# Altium integrated library WE-MCA (rev20c).IntLib: 12 symbols
Pins are listed as number, name and electrical type; pins without a type are passive.

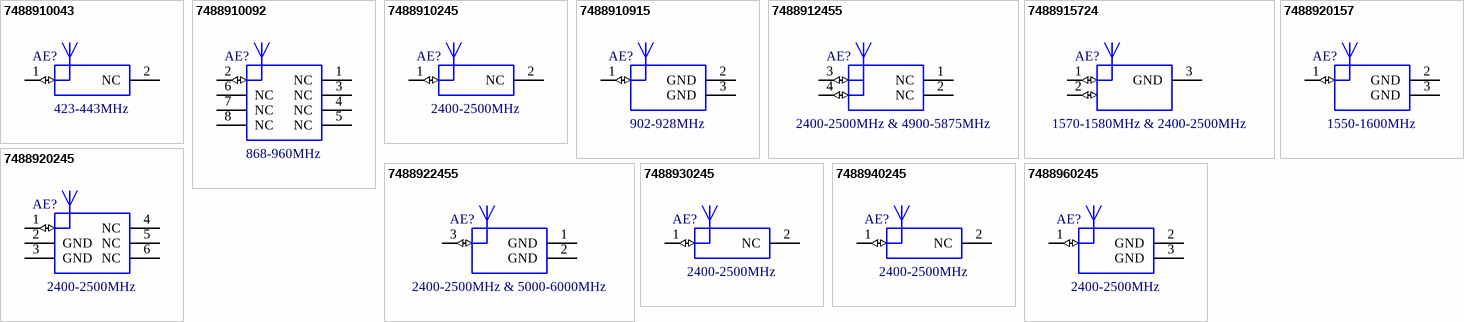
[diagram p0: symbols 7488910043 to 7488960245]

## 7488910043
designator AE?, comment 423-443MHz
WE-MCA SMT Multilayer Chip Antenna, 423-443MHz; Manufacturer: Wurth Elektronik; Manufacturer Part Number: 7488910043; Peak Gain 1: -4dBi; VSWR 1: 2; Impedance: 50Ohm; ComponentLink1Description: Manufacturer; ComponentLink1URL: http://www.we-online.de; ComponentLink2Description: Datasheet; ComponentLink2URL: https://www.we-online.com/catalog/datasheet/7488910043.pdf; Published Date: May 2020; Mounting Technology: SMT; Frequency Range 1: 423-443MHz; Packaging: Tape and Reel; Operating Temperature: -40 to +85degC; Frequency Range 2: -; Peak Gain 2: -; VSWR 2: -
footprint 7488910043
pins: 1 Feed (io), 2 NC

## 7488910092
designator AE?, comment 868-960MHz
WE-MCA SMT Multilayer Chip Antenna, 868-960MHz; Manufacturer: Wurth Elektronik; Manufacturer Part Number: 7488910092; Peak Gain 1: -0.7dBi; VSWR 1: 2.5; Impedance: 50Ohm; ComponentLink1Description: Manufacturer; ComponentLink1URL: http://www.we-online.de; ComponentLink2Description: Datasheet; ComponentLink2URL: https://www.we-online.com/catalog/datasheet/7488910092.pdf; Published Date: May 2020; Mounting Technology: SMT; Frequency Range 1: 868-960MHz; Packaging: Tape and Reel; Operating Temperature: -40 to +85degC; Frequency Range 2: -; Peak Gain 2: -; VSWR 2: -
footprint 7488910092
pins: 1 NC, 2 Feed (io), 3 NC, 4 NC, 5 NC, 6 NC, 7 NC, 8 NC

## 7488910245
designator AE?, comment 2400-2500MHz
WE-MCA SMT Multilayer Chip Antenna, 2400-2500MHz; Manufacturer: Wurth Elektronik; Manufacturer Part Number: 7488910245; Peak Gain 1: 3dBi; VSWR 1: 2; Impedance: 50Ohm; ComponentLink1Description: Manufacturer; ComponentLink1URL: http://www.we-online.de; ComponentLink2Description: Datasheet; ComponentLink2URL: https://www.we-online.com/catalog/datasheet/7488910245.pdf; Published Date: May 2020; Mounting Technology: SMT; Frequency Range 1: 2400-2500MHz; Packaging: Tape and Reel; Operating Temperature: -40 to +85degC; Frequency Range 2: -; Peak Gain 2: -; VSWR 2: -
footprint 7488910245
pins: 1 Feed (io), 2 NC

## 7488910915
designator AE?, comment 902-928MHz
WE-MCA SMT Multilayer Chip Antenna, 902-928MHz; Manufacturer: Wurth Elektronik; Manufacturer Part Number: 7488910915; Peak Gain 1: 0.5dBi; VSWR 1: 3; Impedance: 50Ohm; ComponentLink1Description: Manufacturer; ComponentLink1URL: http://www.we-online.de; ComponentLink2Description: Datasheet; ComponentLink2URL: https://www.we-online.com/catalog/datasheet/7488910915.pdf; Published Date: May 2020; Mounting Technology: SMT; Frequency Range 1: 902-928MHz; Packaging: Tape and Reel; Operating Temperature: -40 to +85degC; Frequency Range 2: -; Peak Gain 2: -; VSWR 2: -
footprint 7488910915 (SMT-Multilayer Chip Antenne, body size 5.2x3.7mm)
pins: 1 Feed (io), 2 GND, 3 GND

## 7488912455
designator AE?, comment 2400-2500MHz & 4900-5875MHz
WE-MCA SMT Multilayer Chip Antenna, 2400-2500MHz & 4900-5875MHz; Manufacturer: Wurth Elektronik; Manufacturer Part Number: 7488912455; Peak Gain 1: 1dBi; VSWR 1: 2.2; Impedance: 50Ohm; Peak Gain 2: -1.5dBi; ComponentLink1Description: Manufacturer; ComponentLink1URL: http://www.we-online.de; ComponentLink2Description: Datasheet; ComponentLink2URL: https://www.we-online.com/catalog/datasheet/7488912455.pdf; Published Date: May 2020; Mounting Technology: SMT; Frequency Range 1: 2400-2500MHz; Packaging: Tape and Reel; Operating Temperature: -40 to +85degC; Frequency Range 2: 4900-5875MHz; VSWR 2: 2.2
footprint 7488912455
pins: 1 NC, 2 NC, 3 Feed_Low Band (io), 4 Feed_High Band (io)

## 7488915724
designator AE?, comment 1570-1580MHz & 2400-2500MHz
WE-MCA SMT Multilayer Chip Antenna, 1570-1580MHz & 2400-2500MHz; Manufacturer: Wurth Elektronik; Manufacturer Part Number: 7488915724; Peak Gain 1: 0.69dBi; VSWR 1: 2.5; Impedance: 50Ohm; Peak Gain 2: 0.97dBi; ComponentLink1Description: Manufacturer; ComponentLink1URL: http://www.we-online.de; ComponentLink2Description: Datasheet; ComponentLink2URL: https://www.we-online.com/catalog/datasheet/7488915724.pdf; Published Date: May 2020; Mounting Technology: SMT; Frequency Range 1: 1570-1580MHz; Packaging: Tape and Reel; Operating Temperature: -40 to +85degC; Frequency Range 2: 2400-2500MHz; VSWR 2: 2.5
footprint 7488915724 (SMT-Multilayer Chip Antenne, body size 3.2x1.7mm)
pins: 1 Feed1 (io), 2 Feed2 (io), 3 GND

## 7488920157
designator AE?, comment 1550-1600MHz
WE-MCA SMT Multilayer Chip Antenna, 1550-1600MHz; Manufacturer: Wurth Elektronik; Manufacturer Part Number: 7488920157; Peak Gain 1: 3.4dBi; VSWR 1: 2; Impedance: 50Ohm; ComponentLink1Description: Manufacturer; ComponentLink1URL: http://www.we-online.de; ComponentLink2Description: Datasheet; ComponentLink2URL: https://www.we-online.com/catalog/datasheet/7488920157.pdf; Published Date: May 2020; Mounting Technology: SMT; Frequency Range 1: 1550-1600MHz; Packaging: Tape and Reel; Operating Temperature: -40 to +85degC; Frequency Range 2: -; Peak Gain 2: -; VSWR 2: -
footprint 7488920157 (SMT-Multilayer Chip Antenne, body size 5.2x3.7mm)
pins: 1 Feed (io), 2 GND, 3 GND

## 7488920245
designator AE?, comment 2400-2500MHz
WE-MCA SMT Multilayer Chip Antenna, 2400-2500MHz; Manufacturer: Wurth Elektronik; Manufacturer Part Number: 7488920245; Peak Gain 1: 1.3dBi; VSWR 1: 2; Impedance: 50Ohm; ComponentLink1Description: Manufacturer; ComponentLink1URL: http://www.we-online.de; ComponentLink2Description: Datasheet; ComponentLink2URL: https://www.we-online.com/catalog/datasheet/7488920245.pdf; Published Date: May 2020; Mounting Technology: SMT; Frequency Range 1: 2400-2500MHz; Packaging: Tape and Reel; Operating Temperature: -40 to +85degC; Frequency Range 2: -; Peak Gain 2: -; VSWR 2: -
footprint 7488920245
pins: 1 Feed (io), 2 GND, 3 GND, 4 NC, 5 NC, 6 NC

## 7488922455
designator AE?, comment 2400-2500MHz & 5000-6000MHz
WE-MCA SMT Multilayer Chip Antenna, 2400-2500MHz & 5000-6000MHz; Manufacturer: Wurth Elektronik; Manufacturer Part Number: 7488922455; Peak Gain 1: 3dBi; VSWR 1: 2; Impedance: 50Ohm; Peak Gain 2: 3.3dBi; ComponentLink1Description: Manufacturer; ComponentLink1URL: http://www.we-online.de; ComponentLink2Description: Datasheet; ComponentLink2URL: https://www.we-online.com/catalog/datasheet/7488922455.pdf; Published Date: September 2020; Mounting Technology: SMT; Frequency Range 1: 2400-2500MHz; Packaging: Tape and Reel; Operating Temperature: -40 to +85degC; Frequency Range 2: 5000-6000MHz; VSWR 2: 2
footprint 7488922455 (SMT-Multilayer Chip Antenne, body size 5.2x3.7mm)
pins: 1 GND, 2 GND, 3 Feed (io)

## 7488930245
designator AE?, comment 2400-2500MHz
WE-MCA SMT Multilayer Chip Antenna, 2400-2500MHz; Manufacturer: Wurth Elektronik; Manufacturer Part Number: 7488930245; Peak Gain 1: 0.5dBi; VSWR 1: 2; Impedance: 50Ohm; ComponentLink1Description: Manufacturer; ComponentLink1URL: http://www.we-online.de; ComponentLink2Description: Datasheet; ComponentLink2URL: https://www.we-online.com/catalog/datasheet/7488930245.pdf; Published Date: May 2020; Mounting Technology: SMT; Frequency Range 1: 2400-2500MHz; Packaging: Tape and Reel; Operating Temperature: -40 to +85degC; Frequency Range 2: -; Peak Gain 2: -; VSWR 2: -
footprint 7488930245
pins: 1 Feed (io), 2 NC

## 7488940245
designator AE?, comment 2400-2500MHz
WE-MCA SMT Multilayer Chip Antenna, 2400-2500MHz; Manufacturer: Wurth Elektronik; Manufacturer Part Number: 7488940245; Peak Gain 1: 2dBi; VSWR 1: 2; Impedance: 50Ohm; ComponentLink1Description: Manufacturer; ComponentLink1URL: http://www.we-online.de; ComponentLink2Description: Datasheet; ComponentLink2URL: https://www.we-online.com/catalog/datasheet/7488940245.pdf; Published Date: May 2020; Mounting Technology: SMT; Frequency Range 1: 2400-2500MHz; Packaging: Tape and Reel; Operating Temperature: -40 to +85degC; Frequency Range 2: -; Peak Gain 2: -; VSWR 2: -
footprint 7488940245
pins: 1 Feed (io), 2 NC

## 7488960245
designator AE?, comment 2400-2500MHz
WE-MCA SMT Multilayer Chip Antenna, 2400-2500MHz; Manufacturer: Wurth Elektronik; Manufacturer Part Number: 7488960245; Peak Gain 1: 3dBi; VSWR 1: 2.5; Impedance: 50Ohm; ComponentLink1Description: Manufacturer; ComponentLink1URL: http://www.we-online.de; ComponentLink2Description: Datasheet; ComponentLink2URL: https://www.we-online.com/catalog/datasheet/7488960245.pdf; Published Date: May 2020; Mounting Technology: SMT; Frequency Range 1: 2400-2500MHz; Packaging: Tape and Reel; Operating Temperature: -40 to +85degC; Frequency Range 2: -; Peak Gain 2: -; VSWR 2: -
footprint 7488960245 (SMT-Multilayer Chip Antenne, body size 5.2x3.7mm)
pins: 1 Feed (io), 2 GND, 3 GND